# Altium footprint library PCB1.PcbLib: 23 footprints (part 2 of 2)
Each footprint in its own frame and in the unit in brackets; x right, y up, seen from the top. Pads: shape width x height; smd on the part's side, far side on the other; paste and mask are expansions set on the pad; w line width, h text height; cw(c..) or ccw(c..) is an arc to the next point about the centre after c.
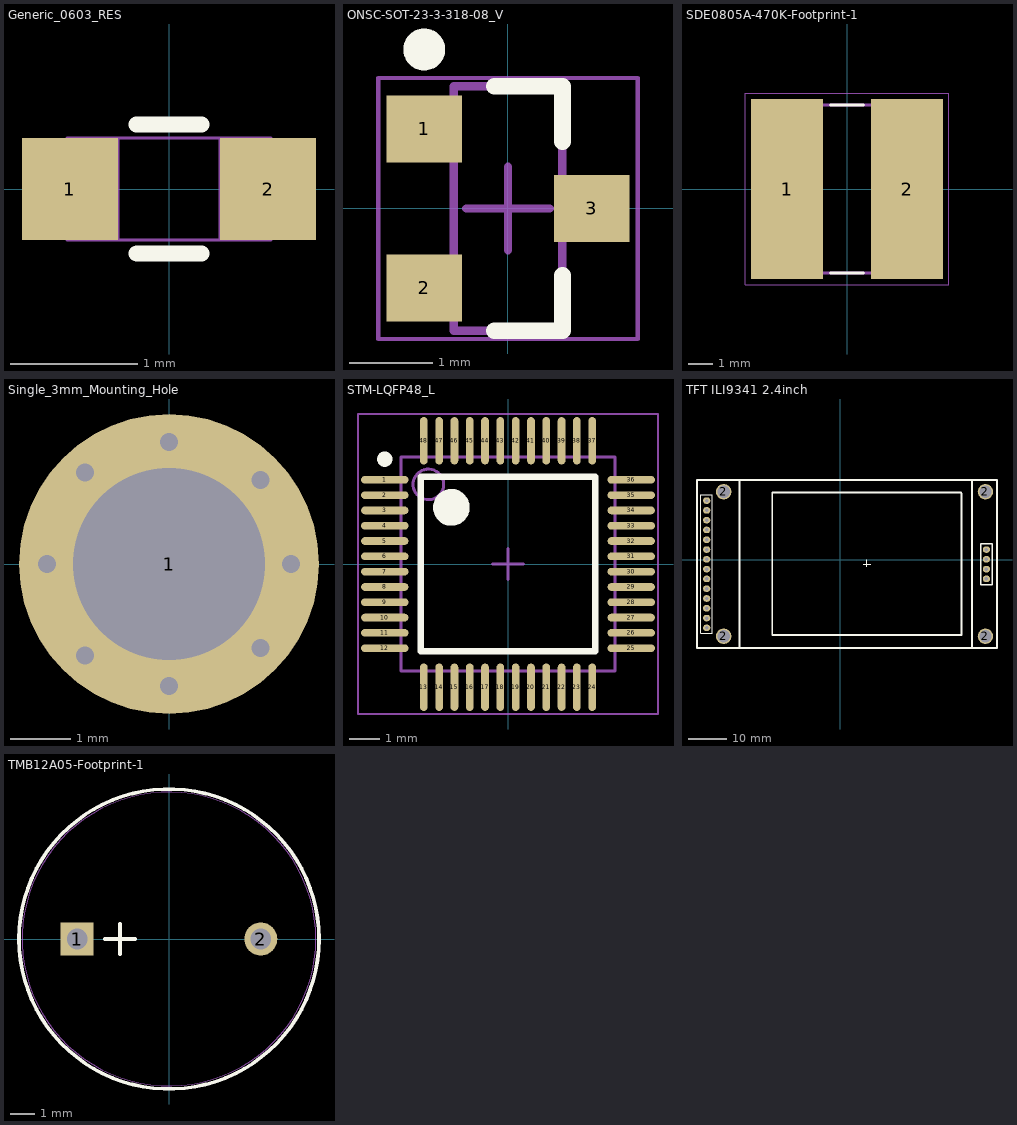
[diagram p1: the footprints below, top view; thin cyan lines are the x and y axes]

## Generic_0603_RES [mm]
pads (2):
  rect 0.756x0.8 smd paste+0 mask+0: 1(-0.778,0) 2(0.778,0)
Top Overlay:
  lines w0.127: -0.254,0.508 0.254,0.508 ; -0.253,-0.507 0.255,-0.507
Mechanical 13:
  lines w0.025: -0.8,-0.4 -0.8,0.4 ; -0.8,-0.4 -0.4,-0.4 -0.4,0.4 -0.8,0.4 ; -0.8,-0.4 0.8,-0.4 ; -0.8,0.4 0.8,0.4 ; 0.8,-0.4 0.4,-0.4 0.4,0.4 0.8,0.4 ; 0.8,-0.4 0.8,0.4
3D body "RC0603N_VIS.step": height 0.71, standoff 0, extent -0.8,-0.4 0.8,0.4

## ONSC-SOT-23-3-318-08_V [mm]
pads (3):
  rect 0.9x0.8 smd: 1(-1,0.95) 2(-1,-0.95) 3(1,0)
Top Overlay:
  circle w0.25: c-1,1.9 r0.125
  lines w0.2: -0.165,-1.46 0.65,-1.46 0.65,-0.8 ; -0.165,1.46 0.65,1.46 0.65,0.8
Mechanical 13:
  lines w0.1: -0.65,-1.46 0.65,-1.46 0.65,1.46 -0.65,1.46 -0.65,-1.46
Mechanical 15:
  lines w0.05: -1.55,-1.56 1.55,-1.56 1.55,1.56 -1.55,1.56 -1.55,-1.56
  lines w0.1: -0.5,0 0.5,0 ; 0,-0.5 0,0.5
3D body: height 1.11, standoff 0.01, extent -0.65,-1.46 0.65,1.46

## SDE0805A-470K-Footprint-1 [mm]
pads (2):
  rect 3x7.5 smd: 1(-2.5,0) 2(2.5,0)
Top Overlay:
  lines w0.127: -0.68,-3.5 0.68,-3.5 ; -0.68,3.5 0.68,3.5
Mechanical 13:
  lines w0.127: -1.72,-3.5 1.72,-3.5 ; -1.72,3.5 1.72,3.5 ; -1.71,-3.505 cw(c0,0) -1.71,3.505 ; 1.71,-3.505 ccw(c0,0) 1.71,3.505
Mechanical 15:
  lines w0.05: -4.25,-4 -4.25,4 4.25,4 4.25,-4 -4.25,-4

## Single_3mm_Mounting_Hole [mm]
pads (1):
  round 5 / inner round 1.524 / far side round 5 hole 3.2: 1(0,0)
via 1.524,1.397 diameter 0.6 hole 0.3
via -1.397,1.524 diameter 0.6 hole 0.3
via -1.397,-1.524 diameter 0.6 hole 0.3
via 1.524,-1.397 diameter 0.6 hole 0.3
via 0,-2.032 diameter 0.6 hole 0.3
via -2.032,0 diameter 0.6 hole 0.3
via 0,2.032 diameter 0.6 hole 0.3
via 2.032,0 diameter 0.6 hole 0.3
3D body "m3-5mm.sldprt": height 3.98, standoff -1.73, extent -2.738,-2.747 2.75,2.747

## STM-LQFP48_L [mm]
pads (48):
  oval 1.55x0.25 smd: 1(-4.025,2.75) 2(-4.025,2.25) 3(-4.025,1.75) 4(-4.025,1.25) 5(-4.025,0.75) 6(-4.025,0.25) 7(-4.025,-0.25) 8(-4.025,-0.75) 9(-4.025,-1.25) 10(-4.025,-1.75) 11(-4.025,-2.25) 12(-4.025,-2.75) 25(4.025,-2.75) 26(4.025,-2.25) 27(4.025,-1.75) 28(4.025,-1.25) 29(4.025,-0.75) 30(4.025,-0.25) 31(4.025,0.25) 32(4.025,0.75) 33(4.025,1.25) 34(4.025,1.75) 35(4.025,2.25) 36(4.025,2.75)
  oval 0.25x1.55 smd: 13(-2.75,-4.025) 14(-2.25,-4.025) 15(-1.75,-4.025) 16(-1.25,-4.025) 17(-0.75,-4.025) 18(-0.25,-4.025) 19(0.25,-4.025) 20(0.75,-4.025) 21(1.25,-4.025) 22(1.75,-4.025) 23(2.25,-4.025) 24(2.75,-4.025) 37(2.75,4.025) 38(2.25,4.025) 39(1.75,4.025) 40(1.25,4.025) 41(0.75,4.025) 42(0.25,4.025) 43(-0.25,4.025) 44(-0.75,4.025) 45(-1.25,4.025) 46(-1.75,4.025) 47(-2.25,4.025) 48(-2.75,4.025)
Top Overlay:
  circle w0.25: c-4.025,3.425 r0.125
  circle w0.6: c-1.85,1.85 r0.3
  lines w0.2: -2.85,-2.85 -2.85,2.85 2.85,2.85 2.85,-2.85 -2.85,-2.85
Mechanical 13:
  circle w0.1: c-2.6,2.6 r0.5
  lines w0.1: -3.5,-3.5 -3.5,3.5 3.5,3.5 3.5,-3.5 -3.5,-3.5
Mechanical 15:
  lines w0.05: -4.9,-4.9 -4.9,4.9 4.9,4.9 4.9,-4.9 -4.9,-4.9
  lines w0.1: -0.5,0 0.5,0 ; 0,-0.5 0,0.5
3D body: height 1.6, standoff 0.05, extent -3.5,-3.5 3.5,3.5

## TFT ILI9341 2.4inch [mm]
pads (22):
  oval 1.9x1.7 hole 0.9: 1(-34.668,15.3) 2(-34.668,12.76) 3(-34.668,10.22) 4(-34.668,7.68) 5(-34.668,5.14) 6(-34.668,2.6) 7(-34.668,0.06) 8(-34.668,-2.48) 9(-34.668,-5.02) 10(-34.668,-7.56) 11(-34.668,-10.1) 12(-34.668,-12.64) 13(-34.668,-15.18) 14(-34.668,-17.72) 15(37.922,-5.016) 16(37.922,-2.476) 17(37.922,0.064) 18(37.922,2.604)
  round 4 hole 3.2: 2(-30.26,-19.904) 2(-30.26,17.603) 2(37.667,-19.904) 2(37.667,17.603)
Top Overlay:
  lines w0.2: 5.938,-1.163 7.843,-1.163 ; 6.827,-1.925 6.827,-0.02 ; -36.148,-19.128 -36.148,16.781 -33.185,16.781 -33.185,-19.128 -36.148,-19.128
  lines w0.4: 36.442,-6.55 36.442,4.085 39.405,4.085 39.405,-6.55 36.442,-6.55
  lines w0.5: -26.103,-22.904 -26.103,20.603 ; -17.653,17.197 -17.653,-19.523 31.307,-19.523 ; -17.653,17.349 31.307,17.349 ; 31.407,-19.523 31.407,17.197 ; 34.157,-22.904 34.157,20.603 ; -37.182,-22.904 -37.182,20.603 40.667,20.603 40.667,-22.904 -37.182,-22.904
Bottom Overlay:
  text "T_IRQ" at -24.212,-18.102 h0.76
  text "T_DO" at -24.212,-15.562 h0.76
  text "T_DIN" at -24.212,-13.022 h0.76
  text "T_CS" at -24.212,-10.482 h0.76
  text "T_CLK" at -24.212,-7.942 h0.76
  text "SDO(MISO)" at -24.212,-5.529 h0.76
  text "LED" at -24.212,-2.989 h0.76
  text "SCK" at -24.212,-0.445 h0.76
  text "SDI(MOSI)" at -24.212,2.099 h0.76
  text "DC" at -24.212,4.643 h0.76
  text "RST" at -24.212,7.187 h0.76
  text "CS" at -24.212,9.731 h0.76
  text "GND" at -24.212,12.276 h0.76
  text "VCC" at -24.212,14.82 h0.76
  text "SD_SCK" at 35.61,-5.75 h0.76
  text "SD_MISO" at 35.61,-3.102 h0.76
  text "SD_MOSI" at 35.61,-0.453 h0.76
  text "SD_CS" at 35.61,2.195 h0.76
3D body "2.4 TFT Module.stp": height 7.34, standoff -4.65, extent -36.884,-22.676 40.459,20.276

## TMB12A05-Footprint-1 [mil]
pads (2):
  rect 54x54 / inner round 60 / far side rect 54x54 hole 34 paste-99999 mask+0: 1(-150,0)
  round 54 / inner round 60 / far side round 54 hole 34 paste-99999 mask+0: 2(150,0)
Top Overlay:
  circle w6: c0,0 r245
  lines w6: -105,0 -55,0 ; -80,-25 -80,25
Mechanical 13:
  circle w0: c0,0 r240
  lines w1: -105,0 -55,0 ; -80,-25 -80,25
3D body "LS_TMB12A05_JHE.step": height 382.6, standoff -172.01, extent -240,-239.53 241.39,239.53